# EAGLE library part LCD8X2 (library various)
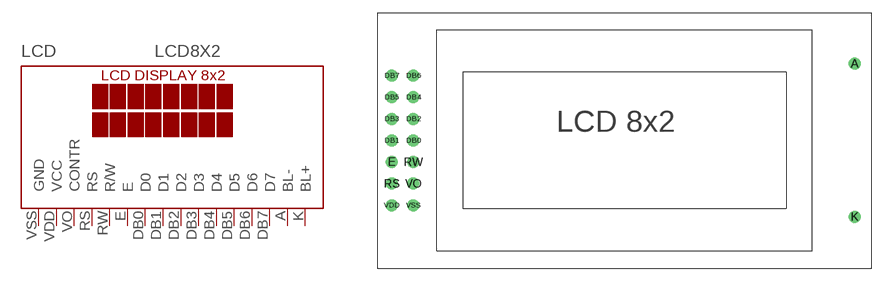
[diagram p0: symbol with the pads of LCD8X2; footprint LCD8X2]

Designator prefix LCD

## LCD8X2  [LCD8X2]
A  BL-  nc
DB0  D0  in
DB1  D1  in
DB2  D2  in
DB3  D3  in
DB4  D4  in
DB5  D5  in
DB6  D6  in
DB7  D7  in
E  E  in
K  BL+  nc
RS  RS  in
RW  R/W  in
VDD  VCC  pwr
VO  CONTR  in
VSS  GND  pwr

## Footprint LCD8X2 (pad centres in mm)
drill 0.9: A 56.005,24.02; DB0 4.245,15.02; DB1 1.705,15.02; DB2 4.245,17.56; DB3 1.705,17.56; DB4 4.245,20.1; DB5 1.705,20.1; DB6 4.245,22.64; DB7 1.705,22.64; E 1.705,12.48; K 56.005,6.02; RS 1.705,9.94; RW 4.245,12.48; VDD 1.705,7.4; VO 4.245,9.94; VSS 4.245,7.4